# Altium integrated library SP0503BAHTG.IntLib: 1 symbol
Pins are listed as number, name and electrical type; pins without a type are passive.

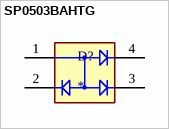
[diagram p0: symbol SP0503BAHTG]

## SP0503BAHTG
designator D?
ESD Suppressor TVS Uni-Dir 5.5V 4-Pin SOT-143 T/R; MP: SP0503BAHTG; MF: Littelfuse; Check_prices: https://www.snapeda.com/parts/SP0503BAHTG/Ersa/view-part/?ref=eda; Value: *; Availability: In Stock; Price: None; Package: None; SnapEDA_Link: https://www.snapeda.com/parts/SP0503BAHTG/Ersa/view-part/?ref=snap; Purchase-URL: https://pricing.snapeda.com/search/part/SP0503BAHTG/?ref=eda
footprint SOT143
pins: 1, 2, 3, 4